# Altium schematic symbol library Schlib1.SchLib: 2 symbols
Pins are listed as number, name and electrical type; pins without a type are passive.

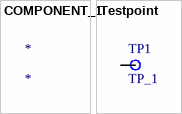
[diagram p0: symbols COMPONENT_1 to Testpoint]

## COMPONENT_1
designator *

## Testpoint
designator TP1, comment TP_1  (no BOM)
footprint Testpoint